# EAGLE library part TI_I2C1:8MUX (library SSI)
I2C 8 channel multiplexer
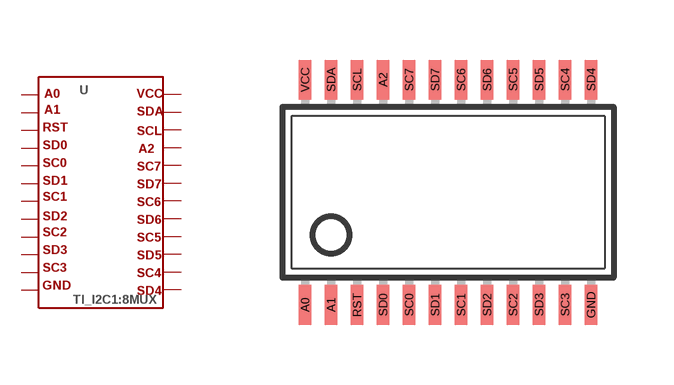
[diagram p36: symbol with the pads of TSSOP24; footprint TSSOP24]

Designator prefix -

## TI_I2C1:8MUX  [TSSOP24]
A0  A0
A1  A1
A2  A2
GND  GND
RST  RST
SC0  SC0
SC1  SC1
SC2  SC2
SC3  SC3
SC4  SC4
SC5  SC5
SC6  SC6
SC7  SC7
SCL  SCL
SD0  SD0
SD1  SD1
SD2  SD2
SD3  SD3
SD4  SD4
SD5  SD5
SD6  SD6
SD7  SD7
SDA  SDA
VCC  VCC

## Footprint TSSOP24 (pad centres in mm)
Thin Shrink Small Outline Plastic 24 Source: http://www.lsicsi.com/pdfs/Drawings/TSSOP_OD.pdf
smd 0.305 x 0.991: A0 -3.575,-2.818; A1 -2.925,-2.818; A2 -1.625,2.818; GND 3.575,-2.818; RST -2.275,-2.818; SC0 -0.975,-2.818; SC1 0.325,-2.818; SC2 1.625,-2.818; SC3 2.925,-2.818; SC4 2.925,2.818; SC5 1.625,2.818; SC6 0.325,2.818; SC7 -0.975,2.818; SCL -2.275,2.818; SD0 -1.625,-2.818; SD1 -0.325,-2.818; SD2 0.975,-2.818; SD3 2.275,-2.818; SD4 3.575,2.818; SD5 2.275,2.818; SD6 0.975,2.818; SD7 -0.325,2.818; SDA -2.925,2.818; VCC -3.575,2.818